# EAGLE library part STEMTERA (library STEMTera)
STEMTera Layout
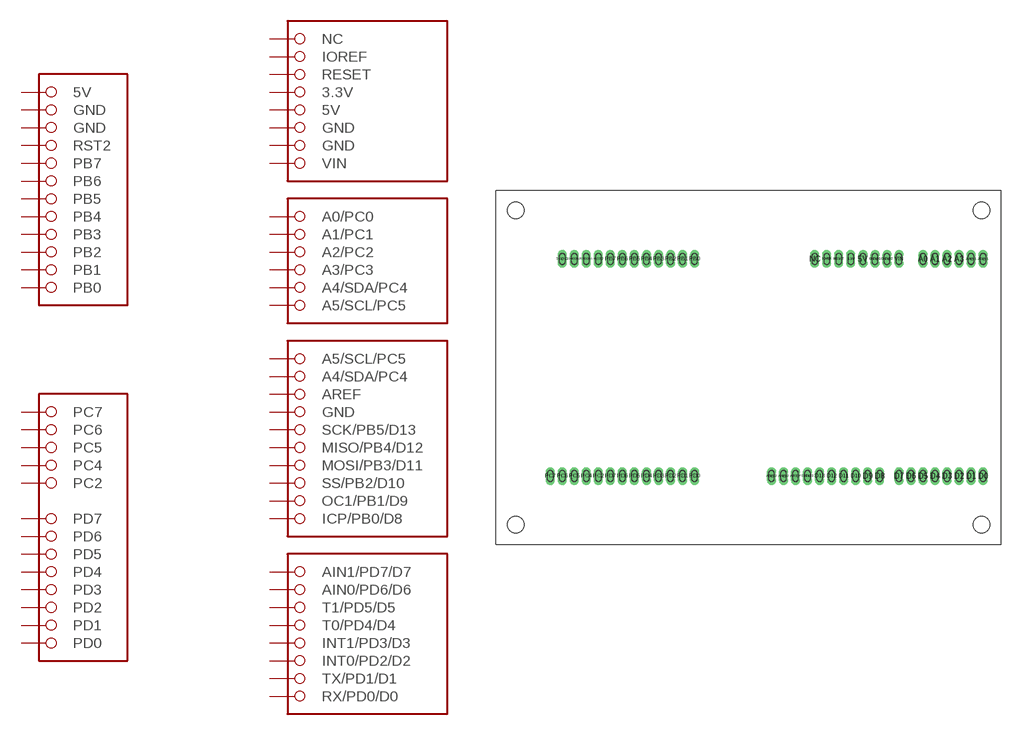
[diagram p18: symbol with the pads of STEMTERA; footprint STEMTERA]

Designator prefix -; gates G$1=CONN_ARDUINO_UNO_R3_ANALOG G$2=CONN_ARDUINO_UNO_R3_DIGITAL G$3=CONN_ATMEGA16U2_ANALOG G$4=CONN_ATMEGA16U2_DIGITAL

## STEMTERA  [STEMTERA]
3.3V  G$1:3.3V  sup
5V  G$1:5V  sup
5V@11  G$3:5V  sup
A0  G$1:A0/PC0
A1  G$1:A1/PC1
A2  G$1:A2/PC2
A3  G$1:A3/PC3
A4@1  G$1:A4/SDA/PC4
A4@2  G$2:A4/SDA/PC4
A5@1  G$1:A5/SCL/PC5
A5@2  G$2:A5/SCL/PC5
AREF  G$2:AREF  pas
D0  G$2:RX/PD0/D0
D1  G$2:TX/PD1/D1
D2  G$2:INT0/PD2/D2
D3  G$2:INT1/PD3/D3
D4  G$2:T0/PD4/D4
D5  G$2:T1/PD5/D5
D6  G$2:AIN0/PD6/D6
D7  G$2:AIN1/PD7/D7
D8  G$2:ICP/PB0/D8
D9  G$2:OC1/PB1/D9
D10  G$2:SS/PB2/D10
D11  G$2:MOSI/PB3/D11
D12  G$2:MISO/PB4/D12
D13  G$2:SCK/PB5/D13
GND@1  G$1:GND  pwr
GND@2  G$1:GND  pwr
GND@3  G$2:GND  pwr
GND@11  G$3:GND  pwr
GND@12  G$3:GND  pwr
IOREF  G$1:IOREF
NC  G$1:NC  nc
PB0  G$3:PB0
PB1  G$3:PB1
PB2  G$3:PB2
PB3  G$3:PB3
PB4  G$3:PB4
PB5  G$3:PB5
PB6  G$3:PB6
PB7  G$3:PB7
PC2  G$4:PC2
PC4  G$4:PC4
PC5  G$4:PC5
PC6  G$4:PC6
PC7  G$4:PC7
PD0  G$4:PD0
PD1  G$4:PD1
PD2  G$4:PD2
PD3  G$4:PD3
PD4  G$4:PD4
PD5  G$4:PD5
PD6  G$4:PD6
PD7  G$4:PD7
RESET  G$1:RESET
RST2  G$3:RST2
VIN  G$1:VIN  pwr

## Footprint STEMTERA (pad centres in mm)
STEMTera Shield
drill 0.5 pad 1.9 long: 3.3V 74.99,60.33; 5V 77.53,60.33; 5V@11 14.03,60.33; A0 90.23,60.33; A1 92.77,60.33; A2 95.31,60.33; A3 97.85,60.33; A4@1 100.39,60.33; A4@2 60.766,14.47; A5@1 102.93,60.33; A5@2 58.226,14.47; AREF 63.306,14.47; D0 102.93,14.47; D1 100.39,14.47; D2 97.85,14.47; D3 95.31,14.47; D4 92.77,14.47; D5 90.23,14.47; D6 87.69,14.47; D7 85.15,14.47; D8 81.086,14.47; D9 78.546,14.47; D10 76.006,14.47; D11 73.466,14.47; D12 70.926,14.47; D13 68.386,14.47; GND@1 80.07,60.33; GND@2 82.61,60.33; GND@3 65.846,14.47; GND@11 19.11,60.33; GND@12 16.57,60.33; IOREF 69.91,60.33; NC 67.37,60.33; PB0 41.97,60.33; PB1 39.43,60.33; PB2 36.89,60.33; PB3 34.35,60.33; PB4 31.81,60.33; PB5 29.27,60.33; PB6 26.73,60.33; PB7 24.19,60.33; PC2 21.65,14.47; PC4 19.11,14.47; PC5 16.57,14.47; PC6 14.03,14.47; PC7 11.49,14.47; PD0 41.97,14.47; PD1 39.43,14.47; PD2 36.89,14.47; PD3 34.35,14.47; PD4 31.81,14.47; PD5 29.27,14.47; PD6 26.73,14.47; PD7 24.19,14.47; RESET 72.45,60.33; RST2 21.65,60.33; VIN 85.15,60.33
hole 3.5 at 4.2,4.2
hole 3.5 at 102.6,4.2
hole 3.5 at 102.6,70.6
hole 3.5 at 4.2,70.6